# Altium footprint library DB9M.PcbLib: 1 footprints
Each footprint in its own frame and in the unit in brackets; x right, y up, seen from the top. Pads: shape width x height; smd on the part's side, far side on the other; paste and mask are expansions set on the pad; w line width, h text height; cw(c..) or ccw(c..) is an arc to the next point about the centre after c.
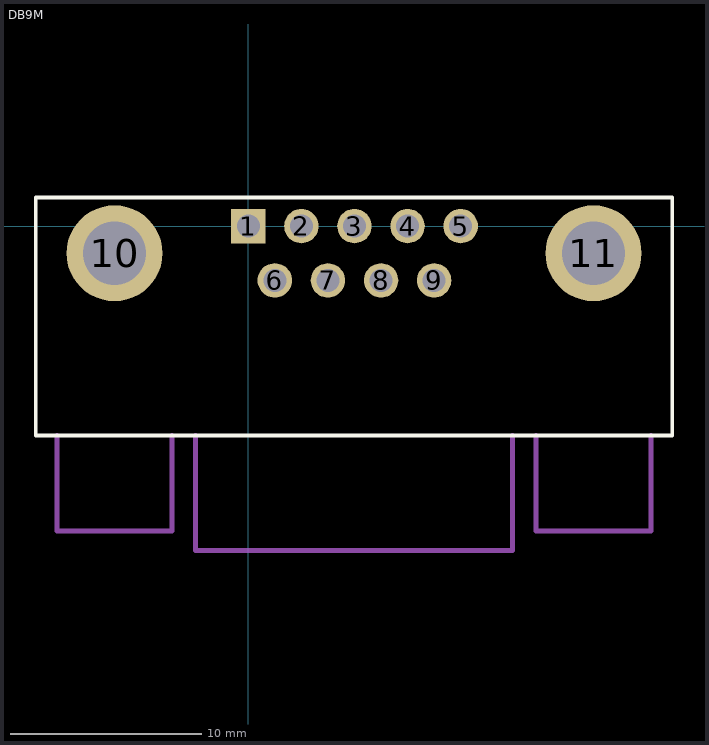
[diagram p0: the footprint, top view; thin cyan lines are the x and y axes]

## DB9M [mm]
pads (11):
  rect 1.8x1.8 hole 1.2: 1(0,0)
  round 1.8 hole 1.2: 2(2.77,0) 3(5.54,0) 4(8.31,0) 5(11.08,0) 6(1.385,-2.84) 7(4.155,-2.84) 8(6.925,-2.84) 9(9.695,-2.84)
  round 5 hole 3.3: 10(-6.98,-1.42) 11(18.01,-1.42)
Top Overlay:
  lines w0.2: -11.085,-10.92 -11.085,1.48 22.115,1.48 22.115,-10.92 -11.085,-10.92
Mechanical 1:
  lines w0.254: -9.98,-10.92 -9.98,-15.92 -3.98,-15.92 -3.98,-10.92 ; -2.745,-10.92 -2.745,-16.92 13.775,-16.92 13.775,-10.92 ; 15.01,-10.92 15.01,-15.92 21.01,-15.92 21.01,-10.92
3D body: height 12.55, standoff -3.5, extent -10.044,-17.022 21.27,1.778